# Altium footprint library pcb_file1.PcbLib: 1 footprints
Each footprint in its own frame and in the unit in brackets; x right, y up, seen from the top. Pads: shape width x height; smd on the part's side, far side on the other; paste and mask are expansions set on the pad; w line width, h text height; cw(c..) or ccw(c..) is an arc to the next point about the centre after c.
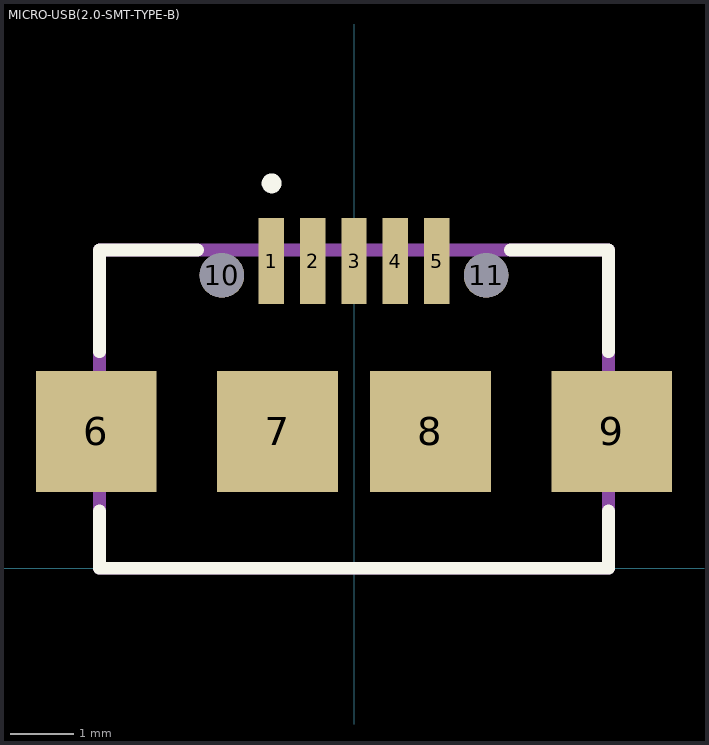
[diagram p0: the footprint, top view; thin cyan lines are the x and y axes]

## MICRO-USB(2.0-SMT-TYPE-B) [mm]
pads (11):
  rect 0.4x1.35 smd: 1(-1.3,4.825) 2(-0.65,4.825) 3(0,4.825) 4(0.65,4.825) 5(1.3,4.825)
  rect 1.9x1.9 smd: 6(-4.05,2.15) 7(-1.2,2.15) 8(1.2,2.15) 9(4.05,2.15)
  round 0.7 hole 0.7: 10(-2.075,4.6) 11(2.075,4.6)
Top Overlay:
  circle w0.2: c-1.295,6.047 r0.056
  lines w0.2: -4,0.9 -4,0 4,0 4,0.9 ; -4,3.403 -4,5 -2.459,5 ; 2.459,5 4,5 4,3.403
Mechanical 13:
  lines w0.2: -4,0 4,0 4,5 -4,5 -4,0